# Altium footprint library SW_DIP1.PcbLib: 1 footprints
Each footprint in its own frame and in the unit in brackets; x right, y up, seen from the top. Pads: shape width x height; smd on the part's side, far side on the other; paste and mask are expansions set on the pad; w line width, h text height; cw(c..) or ccw(c..) is an arc to the next point about the centre after c.
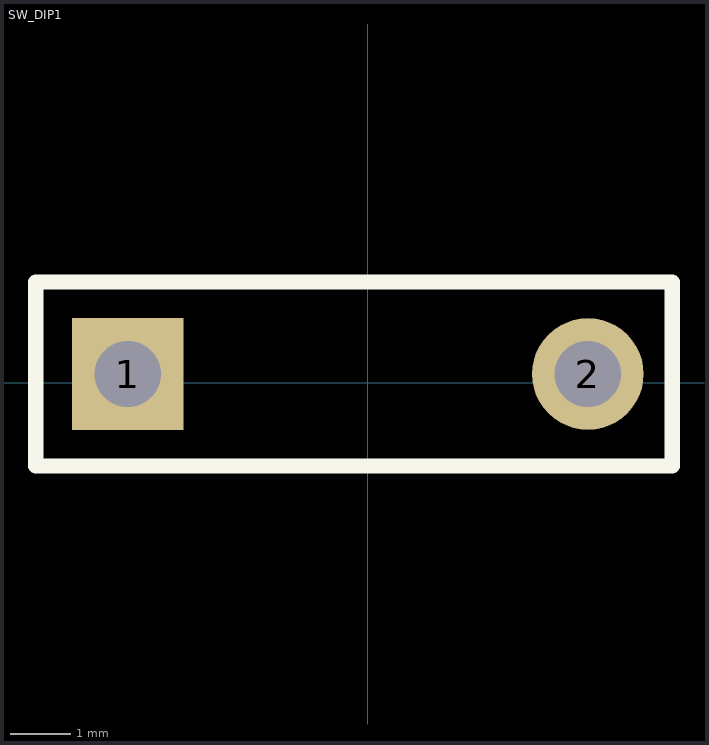
[diagram p0: the footprint, top view; thin cyan lines are the x and y axes]

## SW_DIP1 [mm]
pads (2):
  rect 1.85x1.85 hole 1.1: 1(-3.974,0.142)
  round 1.85 hole 1.1: 2(3.646,0.142)
Top Overlay:
  lines w0.254: -5.498,-1.382 5.043,-1.382 5.043,1.666 -5.498,1.666 -5.498,-1.382
3D body "User Library-DIP_1.step": height 6.56, standoff -3.92, extent -5.037,-1.89 4.963,2.11